# Altium schematic symbol library Trans,Array,NPN_NPN,Matched,45V,100mA,SOT-363.Schlib: 1 symbol
Pins are listed as number, name and electrical type; pins without a type are passive.

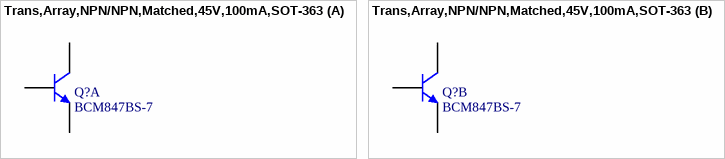
[diagram p0: symbol Trans,Array,NPN/NPN,Matched,45V,100mA,SOT-363]

## Trans,Array,NPN/NPN,Matched,45V,100mA,SOT-363
designator Q?, comment BCM847BS-7
Bipolar (BJT) Transistor Array 2 NPN (Dual) Matched Pair 45V 100mA 100MHz 200mW Surface Mount SOT-363
part A pins: 1 E1, 2 B1, 6 C1
part B pins: 3 C2, 4 E2, 5 B2